# EAGLE library part AD623 (library AD623)
Single-Supply, Rail-to-Rail, Low Cost Instrumentation Amplifier Source: http://www.analog.com/static/imported-files/data_sheets/AD623.pdf
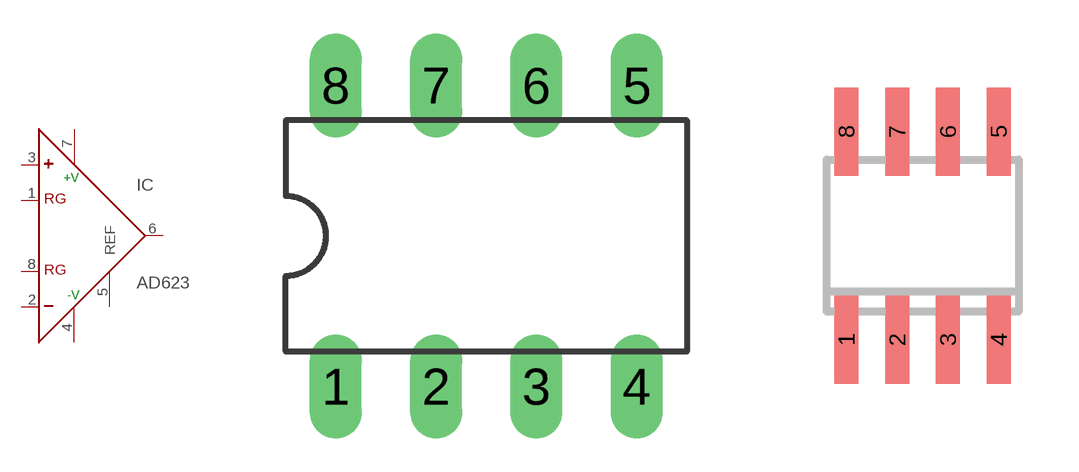
[diagram p0: symbol with the pads of DIL08; footprints DIL08, SO8]

Designator prefix IC

## AD623N (Availability: Unavailable; Description: Instrumentation Amplifier 1 Circuit Rail-to-Rail 8-SOIC; MF: Analog Devices; MP: AD623; Package: MSOP-8 Analog Devices; Price: None)  [DIL08]
1  RG  pas
2  -  in
3  +  in
4  -V  pwr
5  REF  pas
6  OUT  out
7  +V  pwr
8  RG  pas

## AD623R (Availability: Unavailable; Description: Instrumentation Amplifier 1 Circuit Rail-to-Rail 8-SOIC; MF: Analog Devices; MP: AD623; Package: MSOP-8 Analog Devices; Price: None)  [SO8]
Pads as for DIL08

## AD623RM (Availability: Unavailable; Description: Instrumentation Amplifier 1 Circuit Rail-to-Rail 8-SOIC; MF: Analog Devices; MP: AD623; Package: MSOP-8 Analog Devices; Price: None)  [MSOP08]
Pads as for DIL08

## Footprint DIL08 (pad centres in mm)
Dual In Line Package
drill 0.813 long: 1 -3.81,-3.81; 2 -1.27,-3.81; 3 1.27,-3.81; 4 3.81,-3.81; 5 3.81,3.81; 6 1.27,3.81; 7 -1.27,3.81; 8 -3.81,3.81

## Footprint SO8 (pad centres in mm)
8-Lead Small Outline IC (SO-8) Source: http://www.analog.com/UploadedFiles/Data_Sheets/703465986AD8611_2_0.pdf
smd 0.6 x 2.2: 1 -1.905,-2.6; 2 -0.635,-2.6; 3 0.635,-2.6; 4 1.905,-2.6; 5 1.905,2.6; 6 0.635,2.6; 7 -0.635,2.6; 8 -1.905,2.6

## Footprint MSOP08 (pad centres in mm)
8-Lead micro SO (RM-8) Source: http://www.analog.com/UploadedFiles/Data_Sheets/703465986AD8611_2_0.pdf
smd 0.4 x 1: 1 -0.976,-2.263; 2 -0.326,-2.263; 3 0.324,-2.263; 4 0.974,-2.263; 5 0.974,2.262; 6 0.324,2.262; 7 -0.326,2.262; 8 -0.976,2.262